# EAGLE library part XC9572XL (library motorFeedback)
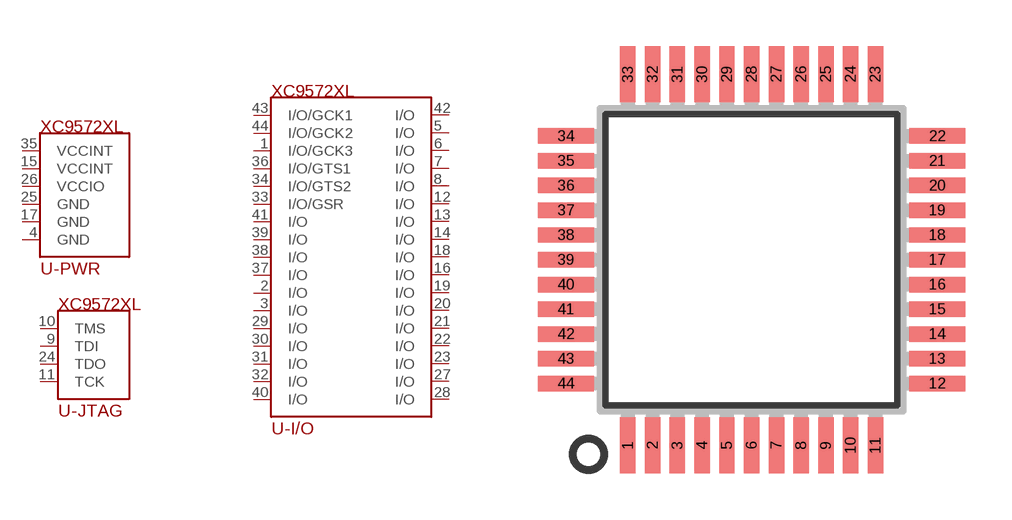
[diagram p18: symbol with the pads of VQFP44; footprint VQFP44]

Designator prefix U; gates -PWR=XC9572XL-7VQ44PWR -I/O=XC9572XL-7VQG44CIO -JTAG=XC9572XL-JTAG

## XC9572XLVQG44  [VQFP44]
1  -I/O:I/O/GCK3
2  -I/O:I/O
3  -I/O:I/O
4  -PWR:GND
5  -I/O:I/O
6  -I/O:I/O
7  -I/O:I/O
8  -I/O:I/O
9  -JTAG:TDI
10  -JTAG:TMS
11  -JTAG:TCK
12  -I/O:I/O
13  -I/O:I/O
14  -I/O:I/O
15  -PWR:VCCINT
16  -I/O:I/O
17  -PWR:GND
18  -I/O:I/O
19  -I/O:I/O
20  -I/O:I/O
21  -I/O:I/O
22  -I/O:I/O
23  -I/O:I/O
24  -JTAG:TDO
25  -PWR:GND
26  -PWR:VCCIO
27  -I/O:I/O
28  -I/O:I/O
29  -I/O:I/O
30  -I/O:I/O
31  -I/O:I/O
32  -I/O:I/O
33  -I/O:I/O/GSR
34  -I/O:I/O/GTS2
35  -PWR:VCCINT
36  -I/O:I/O/GTS1
37  -I/O:I/O
38  -I/O:I/O
39  -I/O:I/O
40  -I/O:I/O
41  -I/O:I/O
42  -I/O:I/O
43  -I/O:I/O/GCK1
44  -I/O:I/O/GCK2

## Footprint VQFP44 (pad centres in mm)
QFP44 shrink quad flat pack, square
smd 0.5 x 1.8: 1 -4,-6; 2 -3.2,-6; 3 -2.4,-6; 4 -1.6,-6; 5 -0.8,-6; 6 0,-6; 7 0.8,-6; 8 1.6,-6; 9 2.4,-6; 10 3.2,-6; 11 4,-6; 23 4,6; 24 3.2,6; 25 2.4,6; 26 1.6,6; 27 0.8,6; 28 0,6; 29 -0.8,6; 30 -1.6,6; 31 -2.4,6; 32 -3.2,6; 33 -4,6
smd 1.8 x 0.5: 12 6,-4; 13 6,-3.2; 14 6,-2.4; 15 6,-1.6; 16 6,-0.8; 17 6,0; 18 6,0.8; 19 6,1.6; 20 6,2.4; 21 6,3.2; 22 6,4; 34 -6,4; 35 -6,3.2; 36 -6,2.4; 37 -6,1.6; 38 -6,0.8; 39 -6,0; 40 -6,-0.8; 41 -6,-1.6; 42 -6,-2.4; 43 -6,-3.2; 44 -6,-4